# Altium schematic symbol library Diode.SchLib: 5 symbols
Pins are listed as number, name and electrical type; pins without a type are passive.

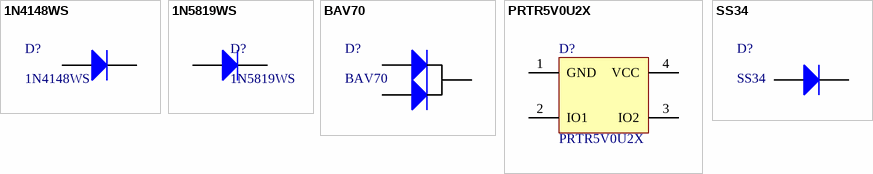
[diagram p0: symbols 1N4148WS to SS34]

## 1N4148WS
designator D?
100V Single 1.25V@150mA 4ns 150mA SOD-323  Switching Diode ROHS; Package: SOD-323
footprint SOD-323
pins: 1 A, 2 K

## 1N5819WS
designator D?
40V Single 900mV@3A 1A SOD-323  Schottky Barrier Diodes (SBD) ROHS; Maximum Forward Voltage: 1V; JLCPCB Part Number: C191023; Maximum Average Forward Rectified Current: 1A; ComponentLink1Description: Datasheet; ComponentLink1URL: https://datasheet.lcsc.com/lcsc/2204281430_Guangdong-Hottech-1N5819WS_C191023.pdf
footprint SOD-323
pins: 1 A, 2 K

## BAV70
designator D?
70V Dual Common Cathode 1.25V@150mA 6ns 200mA SOT-23  Switching Diode ROHS; Package: SOT-23
footprint BAV70
pins: 1 A1, 2 A2, 3 K

## PRTR5V0U2X
designator D?
Ultra low capacitance double rail-to-rail ESD protection diode; Manufacturer: NXP Semiconductors; Part number IPS: 00000009951; Note: N.A.; Artikkelnr Noca: 10069015; Pad Count: 4; Part Number: PRTR5V0U2X; Manufacturer Part Number: PRTR5V0U2X; LatestRevisionDate: 2017-11-09; Publisher: Nordic Semiconductor; Published: 2012-06-11; Value: PRTR5V0U2X; Footprint Doc: SOT-143B; ComponentLink1URL: N.A.; ComponentLink1Description: Datasheet; ComponentLink2URL: N.A.; ComponentLink2Description: Supplier link; HelpURL: http://www.farnell.com/datasheets/109718.pdf; Pin Count: 4; Supplier 1: Digi-Key; Supplier Part Number 1: 568-4140-1-ND; Supplier 2: Farnell; Supplier Part Number 2: 152-4157; Author: rsk; Component Class: Semiconductors; PartId: 101300082; Part number Norautron: N.A.
footprint SOT190P230X110-4L
pins: 1 GND, 2 IO1, 3 IO2, 4 VCC

## SS34
designator D?
Schottky Diodes & Rectifiers 3a 40V Rectifier Schottky Barrier; ComponentLink1Description: 供应商链接; ComponentLink1URL: http://www.szlcsc.com/product/details_23178.html; Package: SMA(DO-214AC); Supplier: LC; SuppliersPartNumber: C22452
footprint SMA(DO-214AC)
pins: 1 A, 2 K